# Altium footprint library soldeerstation.PcbLib: 22 footprints (part 1 of 2)
Each footprint in its own frame and in the unit in brackets; x right, y up, seen from the top. Pads: shape width x height; smd on the part's side, far side on the other; paste and mask are expansions set on the pad; w line width, h text height; cw(c..) or ccw(c..) is an arc to the next point about the centre after c.
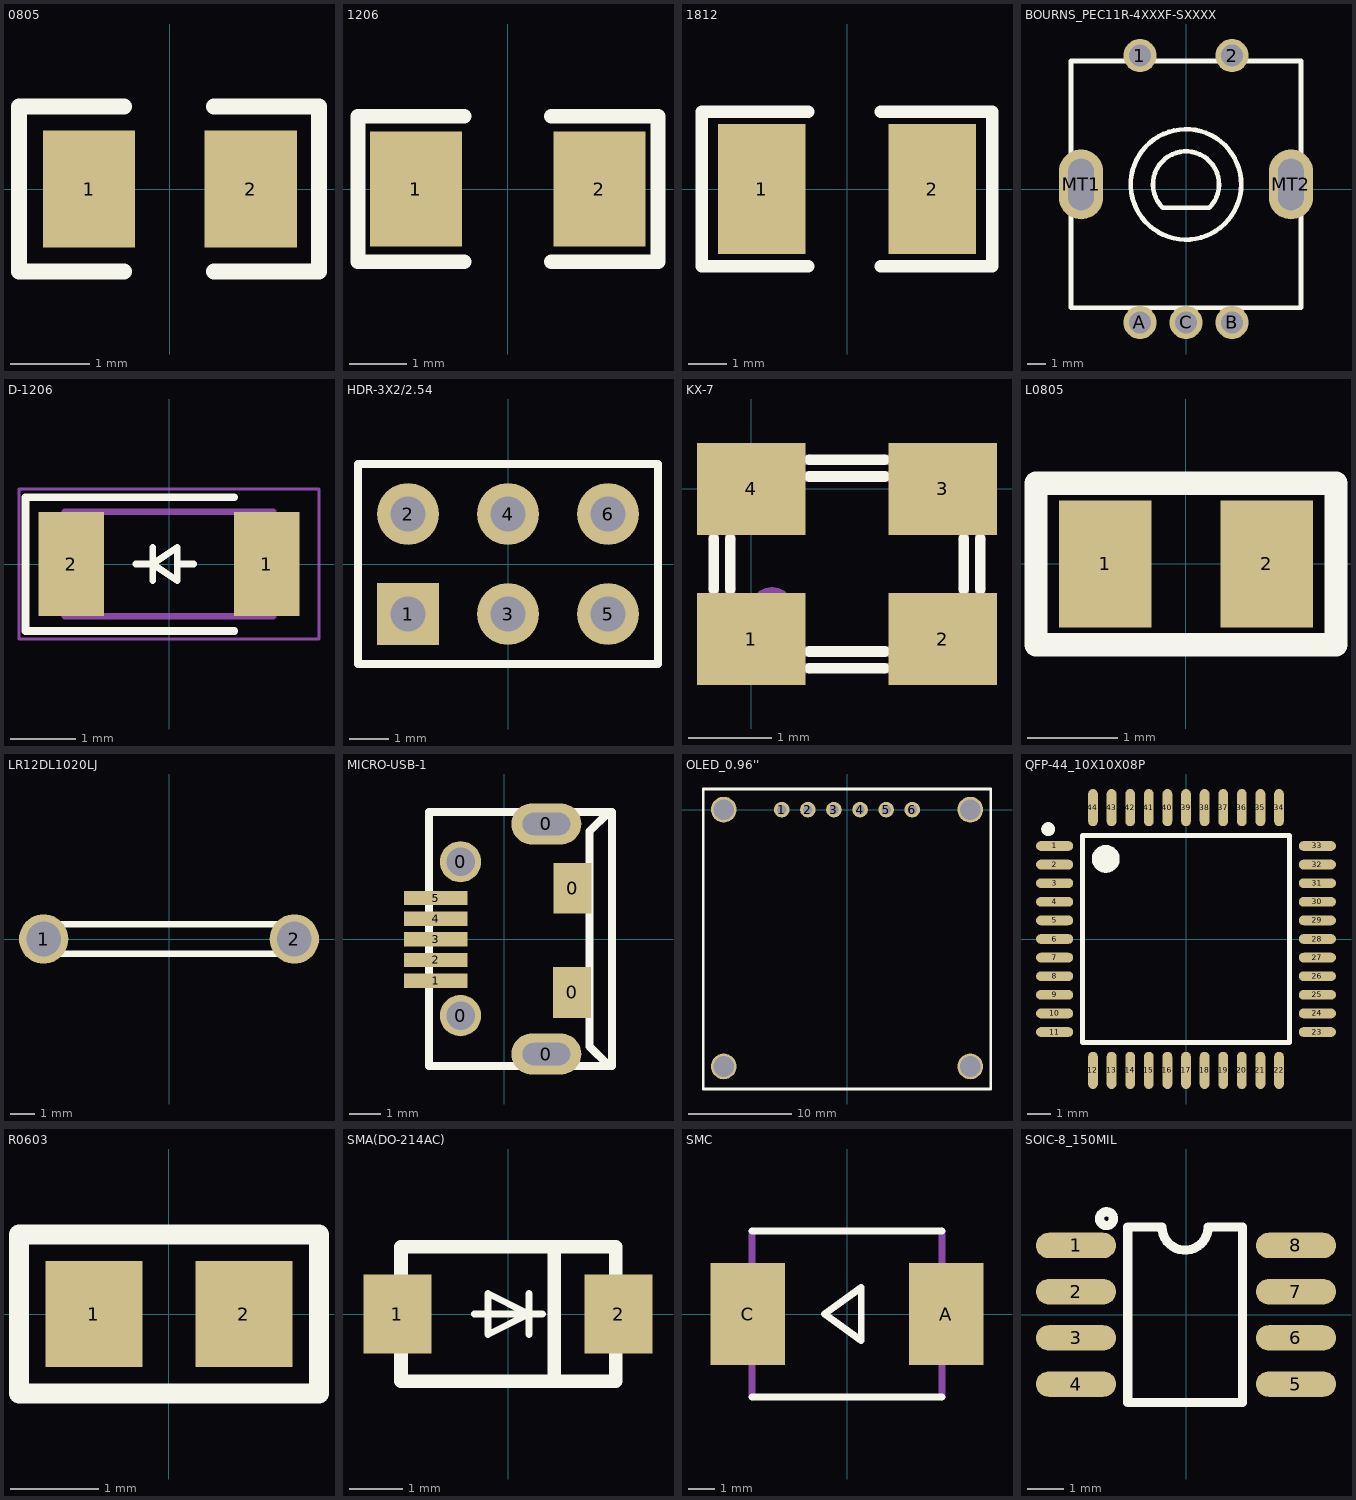
[diagram p0: the footprints below, top view; thin cyan lines are the x and y axes]

## 0805 [mm]
pads (2):
  rect 1.16x1.47 smd: 1(-1.016,0) 2(1.016,0)
Top Overlay:
  lines w0.2: -0.577,-1.035 -1.897,-1.035 -1.897,1.035 -0.577,1.035 ; 0.555,-1.035 1.875,-1.035 1.875,1.035 0.555,1.035

## 1206 [mm]
pads (2):
  rect 1.6x2 smd: 1(-1.6,0) 2(1.6,0)
Top Overlay:
  lines w0.254: -0.762,-1.27 -2.61,-1.27 -2.61,1.27 -0.762,1.27 ; 0.762,-1.27 2.62,-1.27 2.62,1.27 0.762,1.27

## 1812 [mil]
pads (2):
  rect 90x133.86 smd: 1(-88,0) 2(88,0)
Top Overlay:
  lines w13: -40,-80 -150,-80 -150,80 -40,80 ; 35,-80 150,-80 150,80 35,80

## BOURNS_PEC11R-4XXXF-SXXXX [mm]
pads (7):
  round 1.8 hole 1.2: 1(-2.5,7.25) 2(2.5,7.25) A(-2.5,-7.25) B(2.5,-7.25) C(0,-7.25)
  oval 2.4x3.8 hole 1.4 slot 2.8 at 90 deg: MT1(-5.7,0.25) MT2(5.7,0.25)
Top Overlay:
  circle w0.254: c0,0.25 r3
  lines w0.254: -6.25,-6.45 6.25,-6.45 6.25,6.95 -6.25,6.95 -6.25,-6.45 ; -1.27,-1.02 cw(c0,0.25) 1.27,-1.02 -1.27,-1.02

## D-1206 [mm]
pads (2):
  rect 1x1.6 smd: 1(1.499,0) 2(-1.5,0)
Top Overlay:
  lines w0.1: -0.507,0 -0.253,0 ; -0.253,-0.254 -0.253,0.254 ; 0.128,0 0.382,0 ; -0.253,0 0.128,-0.254 0.128,0.254 -0.253,0
  lines w0.12: -2.201,-1.026 0.999,-1.026 ; -2.201,-1.016 -2.201,1.016 ; -2.201,1.024 0.999,1.024
Mechanical 3:
  lines w0.05: -2.3,-1.151 -2.3,1.151 2.3,1.151 2.3,-1.151 -2.3,-1.151
Mechanical 15:
  lines w0.1: -1.599,-0.8 -1.599,0.8 1.601,0.8 1.601,-0.8 -1.599,-0.8

## HDR-3X2/2.54 [mil]
pads (6):
  rect 62x62 hole 35: 1(-100,-50)
  round 62 hole 35: 2(-100,50) 3(0,-50) 4(0,50) 5(100,-50) 6(100,50)
Top Overlay:
  lines w8: -41.67,-100 150,-100 ; 150,-100 -150,-100 -150,100 150,100 150,-100

## KX-7 [mm]
pads (4):
  rect 1.3x1.1 smd: 1(0,-1.8) 2(2.3,-1.8) 3(2.3,0) 4(0,0)
Top Overlay:
  lines w0.127: -0.45,-1.2 -0.45,-0.6 ; -0.25,-1.2 -0.25,-0.6 ; 0.7,-2.15 1.6,-2.15 ; 0.7,-1.95 1.6,-1.95 ; 0.7,0.15 1.6,0.15 ; 0.7,0.35 1.6,0.35 ; 2.55,-1.2 2.55,-0.6 ; 2.75,-1.2 2.75,-0.6
Mechanical 15:
  region: 0.519,-1.45 0.517,-1.416 0.511,-1.383 0.5,-1.351 0.486,-1.32 0.468,-1.292 0.446,-1.266 0.422,-1.243 0.394,-1.223 0.365,-1.206 0.333,-1.194 0.3,-1.185 0.267,-1.181 0.233,-1.181 0.2,-1.185 0.167,-1.194 0.135,-1.206 0.106,-1.223 0.078,-1.243 0.054,-1.266 0.032,-1.292 0.014,-1.32 0,-1.351 -0.011,-1.383 -0.017,-1.416 -0.019,-1.45 -0.017,-1.484 -0.011,-1.517 0,-1.549 0.014,-1.58 0.032,-1.608 0.054,-1.634 0.078,-1.657 0.106,-1.677 0.135,-1.694 0.167,-1.706 0.2,-1.714 0.233,-1.719 0.267,-1.719 0.3,-1.714 0.333,-1.706 0.365,-1.694 0.394,-1.677 0.422,-1.657 0.446,-1.634 0.468,-1.608 0.486,-1.58 0.5,-1.549 0.511,-1.517 0.517,-1.484
  lines w0.127: -0.45,-1.2 -0.45,-1.85 ccw(c-0.15,-1.85) -0.15,-2.15 0.7,-2.15 ; -0.45,-0.6 -0.45,0.05 cw(c-0.15,0.05) -0.15,0.35 0.7,0.35 ; -0.25,-1.2 -0.25,-1.85 ccw(c-0.15,-1.85) -0.15,-1.95 0.7,-1.95 ; -0.25,-0.6 -0.25,0.05 cw(c-0.15,0.05) -0.15,0.15 0.7,0.15 ; 1.6,-2.15 2.45,-2.15 ccw(c2.45,-1.85) 2.75,-1.85 2.75,-1.2 ; 1.6,-1.95 2.45,-1.95 ccw(c2.45,-1.85) 2.55,-1.85 2.55,-1.2 ; 1.6,0.15 2.45,0.15 cw(c2.45,0.05) 2.55,0.05 2.55,-0.6 ; 1.6,0.35 2.45,0.35 cw(c2.45,0.05) 2.75,0.05 2.75,-0.6

## L0805 [mil]
pads (2):
  rect 40x55 smd: 1(-35,0) 2(35,0)
Top Overlay:
  lines w10: -65,-35 -65,35 65,35 65,-35 -65,-35

## LR12DL1020LJ [mm]
pads (2):
  round 2 hole 1.4: 1(-5.08,0) 2(5.08,0)
Top Overlay:
  lines w0.254: -5.1,0.3 -5.1,-0.599 5.1,-0.599 5.1,0.599 -5.1,0.599

## MICRO-USB-1 [mm]
pads (11):
  round 1.3 hole 0.9: 0(-1.371,-2.41) 0(-1.371,2.431)
  oval 2.2x1.3 hole 0.7 slot 1.5 at 0 deg: 0(1.329,-3.619) 0(1.329,3.619)
  rect 1.2x1.6 smd: 0(2.14,-1.683) 0(2.156,1.596)
  rect 2x0.45 smd: 1(-2.156,-1.31) 2(-2.156,-0.66) 3(-2.156,-0.01) 4(-2.156,0.64) 5(-2.156,1.29)
Top Overlay:
  lines w0.254: -2.361,4 -2.361,-4 3.379,-4 ; -2.351,4 3.389,4 ; 3.379,-3.97 3.279,-3.97 2.689,-3.38 2.689,3.39 3.279,3.98 3.399,3.98 ; 3.399,-4 3.399,4

## OLED_0.96'' [mm]
pads (10):
  round 1.524 hole 0.914: 1(-6.349,0.001) 2(-3.809,0.001) 3(-1.269,0.001) 4(1.271,0.001) 5(3.811,0.001) 6(6.351,0.001)
  round 2.5 hole 2: ""(-12.001,-25) ""(-12.001,0.001) ""(11.999,-25) ""(11.999,0.001)
Top Overlay:
  lines w0.254: 13.971,1.98 14,1.951 14,0.808 14,-27.192 -14,-27.192 -14,2.008 14,2.008

## QFP-44_10X10X08P [mm]
pads (44):
  oval 1.6x0.42 smd: 1(-5.65,4) 2(-5.65,3.2) 3(-5.65,2.4) 4(-5.65,1.6) 5(-5.65,0.8) 6(-5.65,0) 7(-5.65,-0.8) 8(-5.65,-1.6) 9(-5.65,-2.4) 10(-5.65,-3.2) 11(-5.65,-4) 23(5.65,-4) 24(5.65,-3.2) 25(5.65,-2.4) 26(5.65,-1.6) 27(5.65,-0.8) 28(5.65,0) 29(5.65,0.8) 30(5.65,1.6) 31(5.65,2.4) 32(5.65,3.2) 33(5.65,4)
  oval 0.42x1.6 smd: 12(-4,-5.65) 13(-3.2,-5.65) 14(-2.4,-5.65) 15(-1.6,-5.65) 16(-0.8,-5.65) 17(0,-5.65) 18(0.8,-5.65) 19(1.6,-5.65) 20(2.4,-5.65) 21(3.2,-5.65) 22(4,-5.65) 34(4,5.65) 35(3.2,5.65) 36(2.4,5.65) 37(1.6,5.65) 38(0.8,5.65) 39(0,5.65) 40(-0.8,5.65) 41(-1.6,5.65) 42(-2.4,5.65) 43(-3.2,5.65) 44(-4,5.65)
Top Overlay:
  lines w0.2: -4.45,-4.45 -4.45,4.45 4.45,4.45 4.45,-4.45 -4.45,-4.45
  lines w0.3: -5.776,4.722 cw(c-5.926,4.723) -5.776,4.724
  lines w0.6: -3.15,3.444 cw(c-3.45,3.447) -3.15,3.449

## R0603 [mm]
pads (2):
  rect 1.1x1.199 smd: 1(-0.85,0) 2(0.85,0)
Top Overlay:
  lines w0.229: -1.7,-0.9 -1.7,0.9 1.7,0.9 1.7,-0.9 -1.7,-0.9

## SMA(DO-214AC) [mil]
pads (2):
  rect 50x57.9 smd: 1(-81,0) 2(81,0)
Top Overlay:
  lines w5: -24.7,0 25.3,0 ; 15.3,-15 15.3,0 ; 15.3,15 15.3,0 ; 15.3,0 -14.7,15 -14.7,0 -14.7,-15 15.3,0
  lines w10: 34,-49 34,49 ; -78.4,-49.2 -78.4,49.2 79,49.2 79,-49.2 -78.4,-49.2

## SMC [mil]
pads (2):
  rect 110.2x149.6 smd: A(146,0) C(-146,0)
Top Overlay:
  lines w10: -140,-122 140,-122 ; -140,122 140,122 ; -33,0 21,-39 21,39 -33,0
Mechanical 15:
  lines w10: -140,-122 -140,122 ; 140,-122 140,122

## SOIC-8_150MIL [mm]
pads (8):
  oval 2.2x0.7 smd: 1(-3.023,1.905) 2(-3.023,0.635) 3(-3.023,-0.635) 4(-3.023,-1.905) 5(3.023,-1.905) 6(3.023,-0.635) 7(3.023,0.635) 8(3.023,1.905)
Top Overlay:
  circle w0.254: c-2.184,2.642 r0.191
  lines w0.254: -1.6,-2.413 -1.6,2.413 -0.66,2.413 ccw(c-0.025,2.413) 0.61,2.413 1.549,2.413 1.549,-2.413 -1.6,-2.413